# Altium schematic symbol library 150k.SchLib: 1 symbol
Pins are listed as number, name and electrical type; pins without a type are passive.

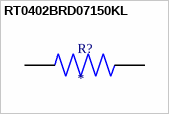
[diagram p0: symbol RT0402BRD07150KL]

## RT0402BRD07150KL
designator R?
150 kOhms Â±0.1% 0.063W, 1/16W Chip Resistor 0402 (1005 Metric) Thin Film; MF: Yageo; MP: RT0402BRD07150KL; SnapEDA_Link: https://www.snapeda.com/parts/RT0402BRD07150KL/Yageo/view-part/?ref=snap; Package: 1005 Yageo; Value: *; Check_prices: https://www.snapeda.com/parts/RT0402BRD07150KL/Yageo/view-part/?ref=eda
footprint RESC1005X35N
pins: 1, 2